# EAGLE library part RFM23BP (library newUstar)
RFM22BP 1W 433MHz Transceiver
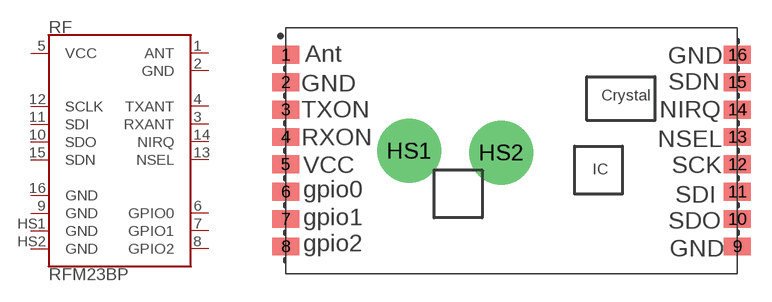
[diagram p4: symbol with the pads of RFM23BP; footprint RFM23BP]

Designator prefix RF

## RFM23BP (FREQUENCY: 433 MHz; MANF-PN: RFM23BP; MANUFACTURER: HOPERF Electronic)  [RFM23BP]
1  ANT
2  GND  pwr
3  RXANT  in
4  TXANT  in
5  VCC  pwr
6  GPIO0
7  GPIO1
8  GPIO2
9  GND  pwr
10  SDO  out
11  SDI  in
12  SCLK  in
13  NSEL  in
14  NIRQ  out
15  SDN  in
16  GND  pwr
HS1  GND  pwr
HS2  GND  pwr

## Footprint RFM23BP (pad centres in mm)
smd 2 x 1.3: 1 -12.319,6.888; 2 -12.319,4.888; 3 -12.319,2.888; 4 -12.319,0.888; 5 -12.319,-1.112; 6 -12.319,-3.112; 7 -12.319,-5.112; 8 -12.319,-7.112; 9 20.681,-7.112; 10 20.681,-5.112; 11 20.681,-3.112; 12 20.681,-1.112; 13 20.681,0.888; 14 20.681,2.888; 15 20.681,4.888; 16 20.681,6.888
drill 3.658: HS1 -3.302,-0.127; HS2 3.429,-0.254